# Altium schematic symbol library INA181A1IDBVR.SchLib: 1 symbol
Pins are listed as number, name and electrical type; pins without a type are passive.

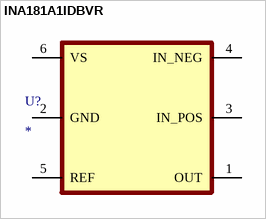
[diagram p0: symbol INA181A1IDBVR]

## INA181A1IDBVR
designator U?
footprint INA181A1IDBVR
pins: 1 OUT, 2 GND, 3 IN_POS, 4 IN_NEG, 5 REF, 6 VS